# Altium footprint library RPSLib_Protection.PcbLib: 6 footprints
Each footprint in its own frame and in the unit in brackets; x right, y up, seen from the top. Pads: shape width x height; smd on the part's side, far side on the other; paste and mask are expansions set on the pad; w line width, h text height; cw(c..) or ccw(c..) is an arc to the next point about the centre after c.
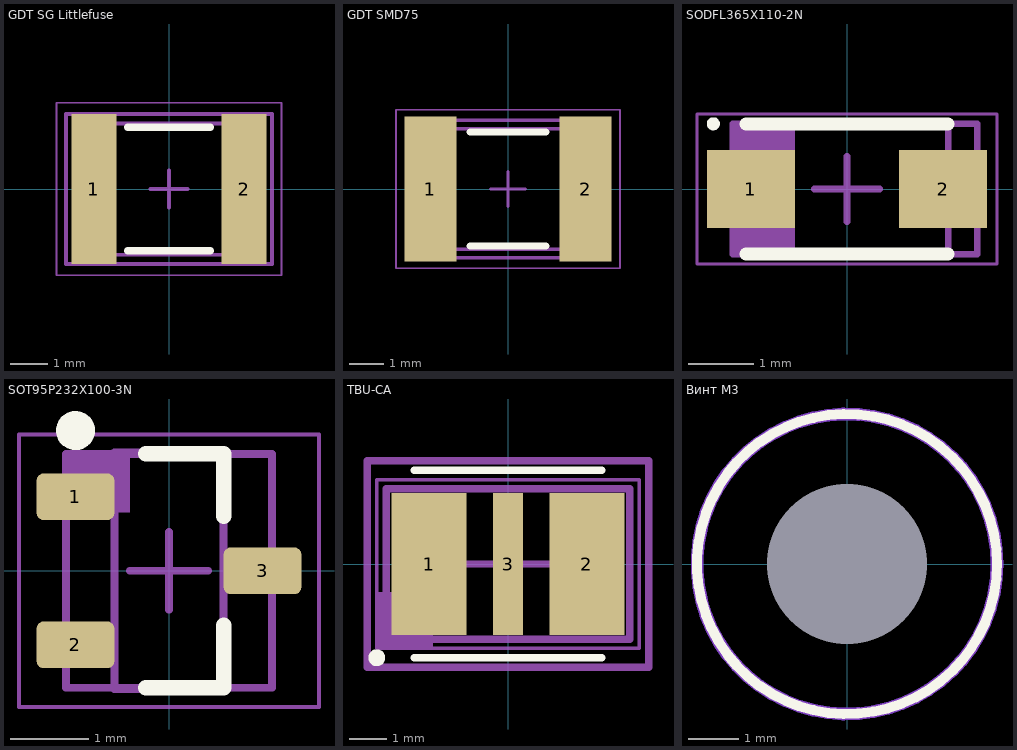
[diagram p0: the footprints below, top view; thin cyan lines are the x and y axes]

## GDT SG Littlefuse [mm] "Chip Gas discharge tube SG Littlefuse"
height 2.7
pads (2):
  rect 1.2x4 smd: 1(-2,0) 2(2,0)
Top Overlay:
  lines w0.2: -1.1,-1.65 1.1,-1.65 ; -1.1,1.65 1.1,1.65
Mechanical 1:
  lines w0.1: -2.75,-2 2.75,-2 2.75,2 -2.75,2 -2.75,-2
  text ".Designator" at -1.126,-0.113 h0.5
Mechanical 13:
  lines w0.1: -2.4,-1.75 2.4,-1.75 2.4,1.75 -2.4,1.75 -2.4,-1.75
Mechanical 15:
  lines w0.05: -3,-2.3 3,-2.3 3,2.3 -3,2.3 -3,-2.3
  lines w0.1: -0.5,0 0.5,0 ; 0,-0.5 0,0.5
3D body "GDT SG Littlefuse.step": height 2.7, standoff 0, extent -2.4,-1.75 2.4,1.75

## GDT SMD75 [mm] "Chip Gas discharge tube SMD75 SURGING"
height 3
pads (2):
  rect 1.5x4.2 smd: 1(-2.25,0) 2(2.25,0)
Top Overlay:
  lines w0.2: -1.1,-1.65 1.1,-1.65 ; -1.1,1.65 1.1,1.65
Mechanical 1:
  lines w0.1: -2.75,-2 2.75,-2 2.75,2 -2.75,2 -2.75,-2
  text ".Designator" at -1.126,-0.113 h0.5
Mechanical 13:
  lines w0.1: -2.4,-1.75 2.4,-1.75 2.4,1.75 -2.4,1.75 -2.4,-1.75
Mechanical 15:
  lines w0.05: -3.25,-2.3 3.25,-2.3 3.25,2.3 -3.25,2.3 -3.25,-2.3
  lines w0.1: -0.5,0 0.5,0 ; 0,-0.5 0,0.5
3D body "GDT SG Littlefuse.step": height 2.7, standoff 0, extent -2.4,-1.75 2.4,1.75

## SODFL365X110-2N [mm] "SODFL, 2-Leads, Body 1,75x3,65mm, IPC Medium Density"
height 1.1
pads (2):
  rect 1.35x1.2 smd: 1(-1.475,0) 2(1.475,0)
Top Overlay:
  circle w0.1: c-2.05,1 r0.05
  lines w0.2: -1.55,-1 1.55,-1 ; -1.55,1 1.55,1
Mechanical 1:
  rectangle: -1.75,-1 -0.795,1
  lines w0.1: -1.75,-1 -1.75,1 2,1 2,-1 -1.75,-1
  text ".Designator" at -0.626,-0.113 h0.5
Mechanical 13:
  lines w0.1: -1.55,-1 -1.55,1 1.55,1 1.55,-1 -1.55,-1
Mechanical 15:
  lines w0.05: -2.3,-1.15 -2.3,1.15 2.3,1.15 2.3,-1.15 -2.3,-1.15
  lines w0.1: -0.5,0 0.5,0 ; 0,-0.5 0,0.5
3D body "SODFL365X110-2N.step": height 1.1, standoff 0, extent -1.825,-1 1.825,1

## SOT95P232X100-3N [mm] "SOT23, 3-Leads, Body 2.92x2.32mm, Pitch 0.95mm, IPC Medium Density"
height 1
pads (3):
  rrect30% 1x0.6 smd paste-0.03: 1(-1.2,0.95) 2(-1.2,-0.95) 3(1.2,0)
Top Overlay:
  circle w0.25: c-1.2,1.8 r0.125
  lines w0.2: -0.3,-1.5 0.7,-1.5 0.7,-0.7 ; -0.3,1.5 0.7,1.5 0.7,0.7
Mechanical 1:
  rectangle: -1.32,0.75 -0.5,1.5
  lines w0.1: -1.32,-1.5 -1.32,1.5 1.32,1.5 1.32,-1.5 -1.32,-1.5
  text ".Designator" at -0.113,1.126 h0.5
Mechanical 13:
  lines w0.1: -0.7,-1.52 0.7,-1.52 0.7,1.52 -0.7,1.52 -0.7,-1.52
Mechanical 15:
  lines w0.05: -1.925,-1.75 1.925,-1.75 1.925,1.75 -1.925,1.75 -1.925,-1.75
  lines w0.1: -0.5,0 0.5,0 ; 0,-0.5 0,0.5
3D body "SOT95P232X100-3N.step": height 1, standoff 0, extent -1.32,-1.52 1.32,1.52

## TBU-CA [mm]
height 1
pads (3):
  rect 2x3.8 smd paste-0.06: 1(-2.1,0) 2(2.1,0)
  rect 0.8x3.8 smd paste-0.06: 3(0,0)
Top Overlay:
  circle w0.25: c-3.5,-2.5 r0.1
  lines w0.2: -2.5,-2.5 2.5,-2.5 ; -2.5,2.5 2.5,2.5
Mechanical 1:
  rectangle: -3.5,-2.25 -2,-0.75
  lines w0.1: -3.5,-2.25 3.5,-2.25 3.5,2.25 -3.5,2.25 -3.5,-2.25
  text ".Designator" at -1.126,-0.113 h0.5
Mechanical 13:
  lines w0.2: -3.25,-2 -3.25,2 3.25,2 3.25,-2 -3.25,-2
Mechanical 15:
  lines w0.2: -1.25,0 1.25,0 ; 0,-1.25 0,1.25 ; -3.75,-2.75 -3.75,2.75 3.75,2.75 3.75,-2.75 -3.75,-2.75
3D body "TBU-CA065.stp": height 1, standoff 0, extent -3.25,-2 3.25,2

## Винт М3 [mm]
pads (1):
  round 0 hole 3.2 unplated: mh2(0,0)
Top Layer keep-out:
  circle w0.254: c0,0 r3
Bottom Layer keep-out:
  circle w0.254: c0,0 r3
Top Overlay:
  circle w0.2: c0,0 r3
Mechanical 15:
  circle w0.1: c0,0 r3
  lines w0.2: -1.25,0 1.25,0 ; 0,-1.25 0,1.25